# EAGLE library part BSC031N06NS3GATMA1 (library BSC031N06NS3GATMA1)
Infineon BSC031N06NS3GATMA1 N-channel MOSFET, 100 A, 60 V OptiMOS 3, 8-Pin TDSON Source: Datasheet <https://www.arrow.com/en/products/bsc031n06ns3gatma1/infineon-technologies-ag>
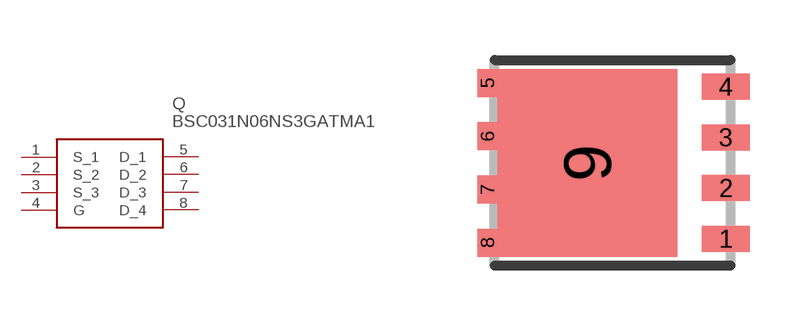
[diagram p0: symbol with the pads of PG-TDSON-8_1; footprint PG-TDSON-8_1]

Designator prefix Q

## BSC031N06NS3GATMA1 (Arrow_Part_Number: BSC031N06NS3GATMA1; Arrow_Price-Stock: https://www.arrow.com/en/products/bsc031n06ns3gatma1/infineon-technologies-ag; Description: Infineon BSC031N06NS3GATMA1 N-channel MOSFET, 100 A, 60 V OptiMOS 3, 8-Pin TDSON; Height: mm; Manufacturer_Name: Infineon; Manufacturer_Part_Number: BSC031N06NS3GATMA1)  [PG-TDSON-8_1]
1  S_1
2  S_2
3  S_3
4  G
5  D_1
6  D_2
7  D_3
8  D_4

## Footprint PG-TDSON-8_1 (pad centres in mm)
PG-TDSON-8_1
smd 1.2 x 0.65: 1 2.834,-1.905; 2 2.834,-0.635; 3 2.834,0.635; 4 2.834,1.905
smd 0.5 x 0.7: 5 -3.135,2; 6 -3.135,0.667; 7 -3.135,-0.667; 8 -3.135,-2
smd 4.5 x 4.7: 9 -0.635,0